# EAGLE library part 20F001N (library 20F001N)
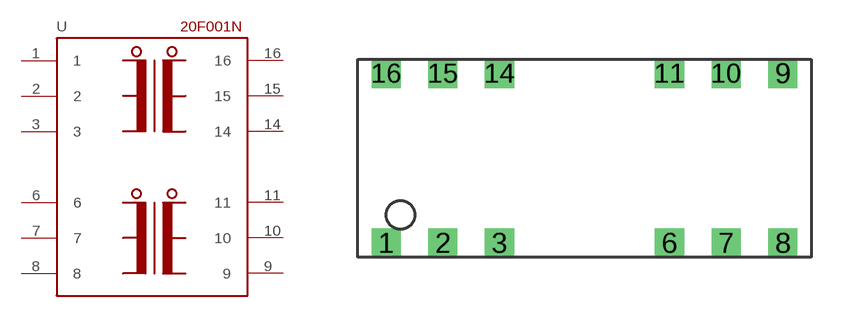
[diagram p0: symbol with the pads of 20F001N; footprint 20F001N]

Designator prefix -

## 20F001N  [20F001N]
1  1
2  2
3  3
6  6
7  7
8  8
9  9
10  10
11  11
14  14
15  15
16  16

## Footprint 20F001N (pad centres in mm)
drill 0.8 square: 1 -8.89,-3.81; 2 -6.35,-3.81; 3 -3.81,-3.81; 6 3.81,-3.81; 7 6.35,-3.81; 8 8.89,-3.81; 9 8.89,3.81; 10 6.35,3.81; 11 3.81,3.81; 14 -3.81,3.81; 15 -6.35,3.81; 16 -8.89,3.81